# Altium footprint library DA2034.PcbLib: 1 footprints
Each footprint in its own frame and in the unit in brackets; x right, y up, seen from the top. Pads: shape width x height; smd on the part's side, far side on the other; paste and mask are expansions set on the pad; w line width, h text height; cw(c..) or ccw(c..) is an arc to the next point about the centre after c.
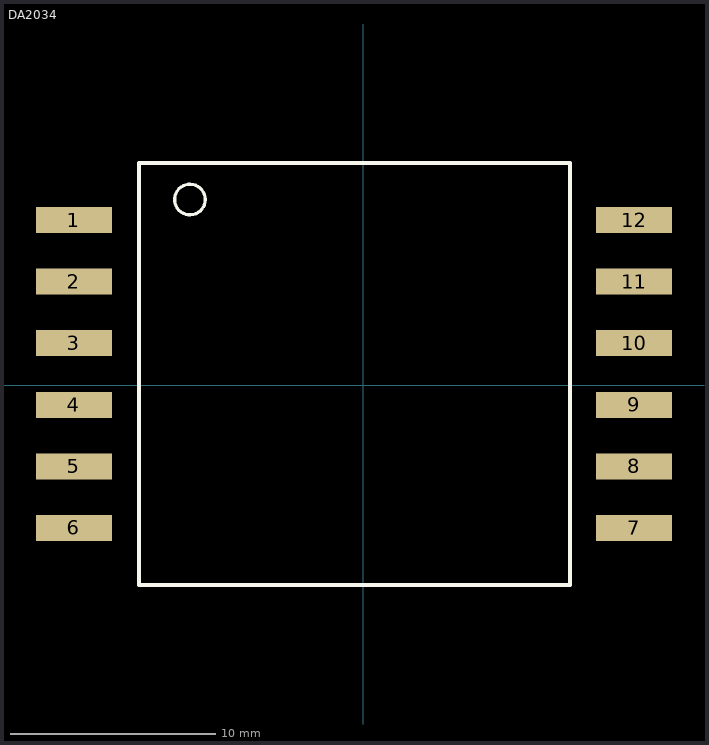
[diagram p0: the footprint, top view; thin cyan lines are the x and y axes]

## DA2034 [mm]
pads (12):
  rect 3.7x1.27 smd: 1(-14.1,8.059) 2(-14.1,5.059) 3(-14.1,2.059) 4(-14.1,-0.941) 5(-14.1,-3.941) 6(-14.1,-6.941) 7(13.206,-6.941) 8(13.206,-3.941) 9(13.206,-0.941) 10(13.206,2.059) 11(13.206,5.059) 12(13.206,8.059)
Top Overlay:
  circle w0.16: c-8.442,9.059 r0.746
  lines w0.2: -10.932,-9.731 -10.932,10.849 10.068,10.849 10.068,-9.731 -10.932,-9.731
3D body "Coilcraft-DA2034-AL.step": height 11.18, standoff -0.25, extent -14.825,-9.685 13.825,10.885